# Altium footprint library PCB - CAPACITOR - ALUMINIUM - CAP ALSMD ELEC 13MM H17MM.pcblib: 1 footprints
Each footprint in its own frame and in the unit in brackets; x right, y up, seen from the top. Pads: shape width x height; smd on the part's side, far side on the other; paste and mask are expansions set on the pad; w line width, h text height; cw(c..) or ccw(c..) is an arc to the next point about the centre after c.
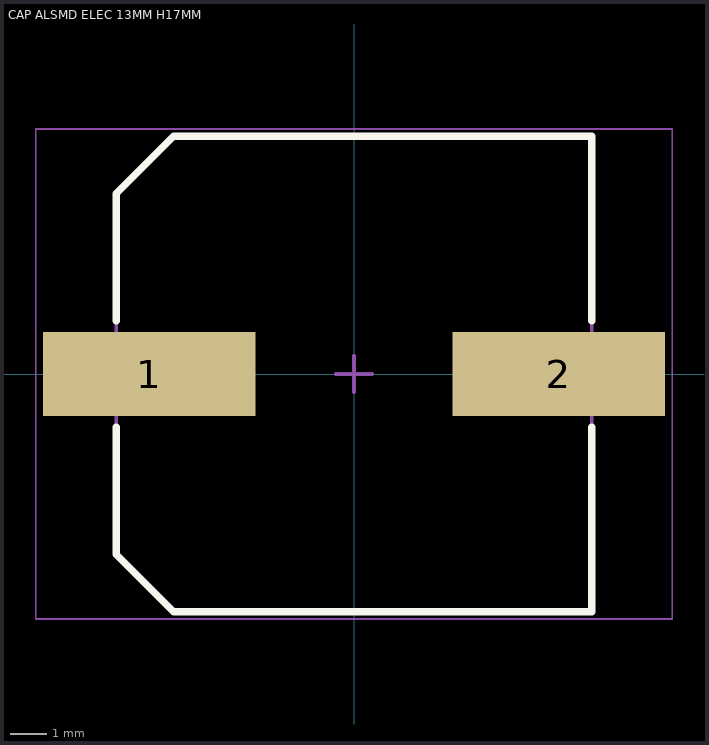
[diagram p0: the footprint, top view; thin cyan lines are the x and y axes]

## CAP ALSMD ELEC 13MM H17MM [mm] "Aluminum SMD Electrolytic Capacitor, 13.00mm Land Size, 12.50mm Diameter, 17.00mm Height, 13.70mm Maximum Leads Span"
height 1.15
pads (2):
  rect 5.8x2.3 smd: 1(-5.6,0) 2(5.6,0)
Top Overlay:
  lines w0.2: -6.5,-1.45 -6.5,-4.937 -4.937,-6.5 6.5,-6.5 6.5,-1.45 ; -6.5,1.45 -6.5,4.937 -4.937,6.5 6.5,6.5 6.5,1.45
Mechanical 13:
  lines w0.1: -6.5,-4.937 -6.5,4.937 -4.937,6.5 6.5,6.5 6.5,-6.5 -4.937,-6.5 -6.5,-4.937
Mechanical 15:
  lines w0.05: -8.7,-6.7 -8.7,6.7 8.7,6.7 8.7,-6.7 -8.7,-6.7
  lines w0.1: -0.5,0 0.5,0 ; 0,-0.5 0,0.5
3D body: height 17, standoff 0, extent -6.85,-6.5 6.85,6.5